# EAGLE library part MCP2551-I/P (library MCP2551-I_P)
Check prices <https://pricing.snapeda.com/parts/MCP2551-I/P/Microchip%20Technology/view-part?ref=eda>
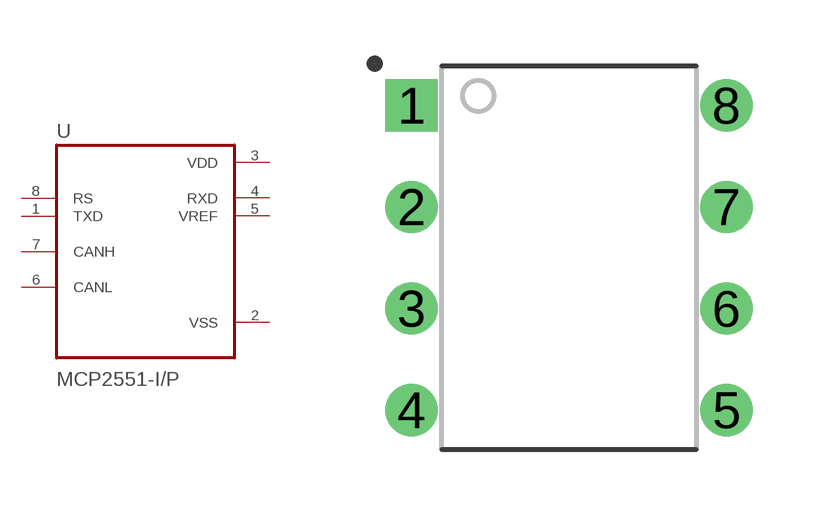
[diagram p0: symbol with the pads of DIP787W46P254L927H533Q8; footprint DIP787W46P254L927H533Q8]

Designator prefix -

## MCP2551-I/P (Availability: Good; Description: IC TRANSCEIVER HALF 1/1 8DIP; MF: Microchip Technology; MP: MCP2551-I/P; Package: None; Price: None; Purchase-URL: https://pricing.snapeda.com/search/part/MCP2551-I/P/?ref=eda)  [DIP787W46P254L927H533Q8]
1  TXD  in
2  VSS  pwr
3  VDD  pwr
4  RXD  out
5  VREF  out
6  CANL
7  CANH
8  RS  in

## Footprint DIP787W46P254L927H533Q8 (pad centres in mm)
drill 0.8 square: 1 -3.935,3.81
drill 0.8: 2 -3.935,1.27; 3 -3.935,-1.27; 4 -3.935,-3.81; 5 3.935,-3.81; 6 3.935,-1.27; 7 3.935,1.27; 8 3.935,3.81